# EAGLE library part ATMEGA64 (library IC)
Atmel ATMEGA64 or ATMEGA64L 8-bit AVR Microcontroller with 64K bytes In-system programmable Flash
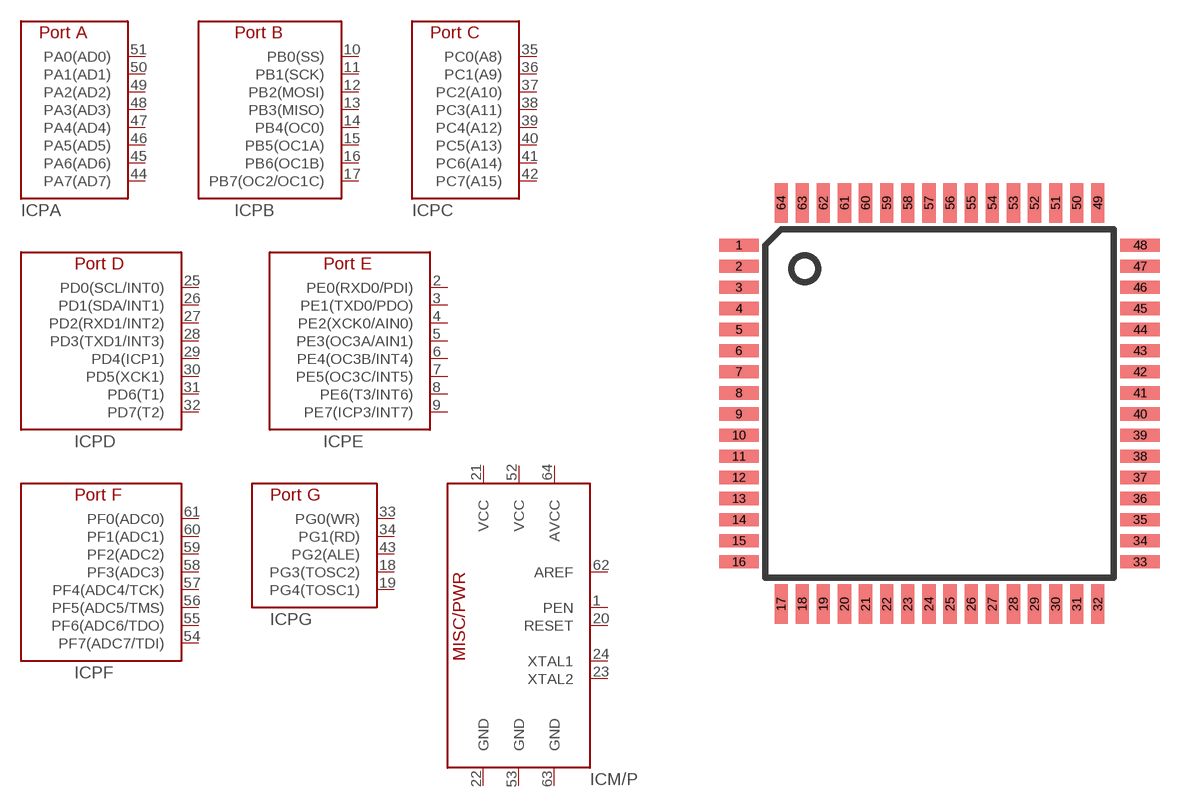
[diagram p68: symbol with the pads of TQFP64; footprint TQFP64]

Designator prefix IC; gates PA=ATMEGA64_A PB=ATMEGA64_B PC=ATMEGA64_C PD=ATMEGA64_D PE=ATMEGA64_E PF=ATMEGA64_F PG=ATMEGA64_G M/P=ATMEGA64_MISC/PWR

## ATMEGA64-TQFP  [TQFP64]
1  M/P:PEN
2  PE:PE0(RXD0/PDI)
3  PE:PE1(TXD0/PDO)
4  PE:PE2(XCK0/AIN0)
5  PE:PE3(OC3A/AIN1)
6  PE:PE4(OC3B/INT4)
7  PE:PE5(OC3C/INT5)
8  PE:PE6(T3/INT6)
9  PE:PE7(ICP3/INT7)
10  PB:PB0(SS)
11  PB:PB1(SCK)
12  PB:PB2(MOSI)
13  PB:PB3(MISO)
14  PB:PB4(OC0)
15  PB:PB5(OC1A)
16  PB:PB6(OC1B)
17  PB:PB7(OC2/OC1C)
18  PG:PG3(TOSC2)
19  PG:PG4(TOSC1)
20  M/P:RESET
21  M/P:VCC  pwr
22  M/P:GND  pwr
23  M/P:XTAL2
24  M/P:XTAL1
25  PD:PD0(SCL/INT0)
26  PD:PD1(SDA/INT1)
27  PD:PD2(RXD1/INT2)
28  PD:PD3(TXD1/INT3)
29  PD:PD4(ICP1)
30  PD:PD5(XCK1)
31  PD:PD6(T1)
32  PD:PD7(T2)
33  PG:PG0(WR)
34  PG:PG1(RD)
35  PC:PC0(A8)
36  PC:PC1(A9)
37  PC:PC2(A10)
38  PC:PC3(A11)
39  PC:PC4(A12)
40  PC:PC5(A13)
41  PC:PC6(A14)
42  PC:PC7(A15)
43  PG:PG2(ALE)
44  PA:PA7(AD7)
45  PA:PA6(AD6)
46  PA:PA5(AD5)
47  PA:PA4(AD4)
48  PA:PA3(AD3)
49  PA:PA2(AD2)
50  PA:PA1(AD1)
51  PA:PA0(AD0)
52  M/P:VCC  pwr
53  M/P:GND  pwr
54  PF:PF7(ADC7/TDI)
55  PF:PF6(ADC6/TDO)
56  PF:PF5(ADC5/TMS)
57  PF:PF4(ADC4/TCK)
58  PF:PF3(ADC3)
59  PF:PF2(ADC2)
60  PF:PF1(ADC1)
61  PF:PF0(ADC0)
62  M/P:AREF
63  M/P:GND  pwr
64  M/P:AVCC  pwr

## Footprint TQFP64 (pad centres in mm)
smd 1.5 x 0.5: 1 -7.6,6; 2 -7.6,5.2; 3 -7.6,4.4; 4 -7.6,3.6; 5 -7.6,2.8; 6 -7.6,2; 7 -7.6,1.2; 8 -7.6,0.4; 9 -7.6,-0.4; 10 -7.6,-1.2; 11 -7.6,-2; 12 -7.6,-2.8; 13 -7.6,-3.6; 14 -7.6,-4.4; 15 -7.6,-5.2; 16 -7.6,-6; 33 7.6,-6; 34 7.6,-5.2; 35 7.6,-4.4; 36 7.6,-3.6; 37 7.6,-2.8; 38 7.6,-2; 39 7.6,-1.2; 40 7.6,-0.4; 41 7.6,0.4; 42 7.6,1.2; 43 7.6,2; 44 7.6,2.8; 45 7.6,3.6; 46 7.6,4.4; 47 7.6,5.2; 48 7.6,6
smd 0.5 x 1.5: 17 -6,-7.6; 18 -5.2,-7.6; 19 -4.4,-7.6; 20 -3.6,-7.6; 21 -2.8,-7.6; 22 -2,-7.6; 23 -1.2,-7.6; 24 -0.4,-7.6; 25 0.4,-7.6; 26 1.2,-7.6; 27 2,-7.6; 28 2.8,-7.6; 29 3.6,-7.6; 30 4.4,-7.6; 31 5.2,-7.6; 32 6,-7.6; 49 6,7.6; 50 5.2,7.6; 51 4.4,7.6; 52 3.6,7.6; 53 2.8,7.6; 54 2,7.6; 55 1.2,7.6; 56 0.4,7.6; 57 -0.4,7.6; 58 -1.2,7.6; 59 -2,7.6; 60 -2.8,7.6; 61 -3.6,7.6; 62 -4.4,7.6; 63 -5.2,7.6; 64 -6,7.6